# Altium footprint library 691 382 030 0xx.PcbLib: 6 footprints
Each footprint in its own frame and in the unit in brackets; x right, y up, seen from the top. Pads: shape width x height; smd on the part's side, far side on the other; paste and mask are expansions set on the pad; w line width, h text height; cw(c..) or ccw(c..) is an arc to the next point about the centre after c.
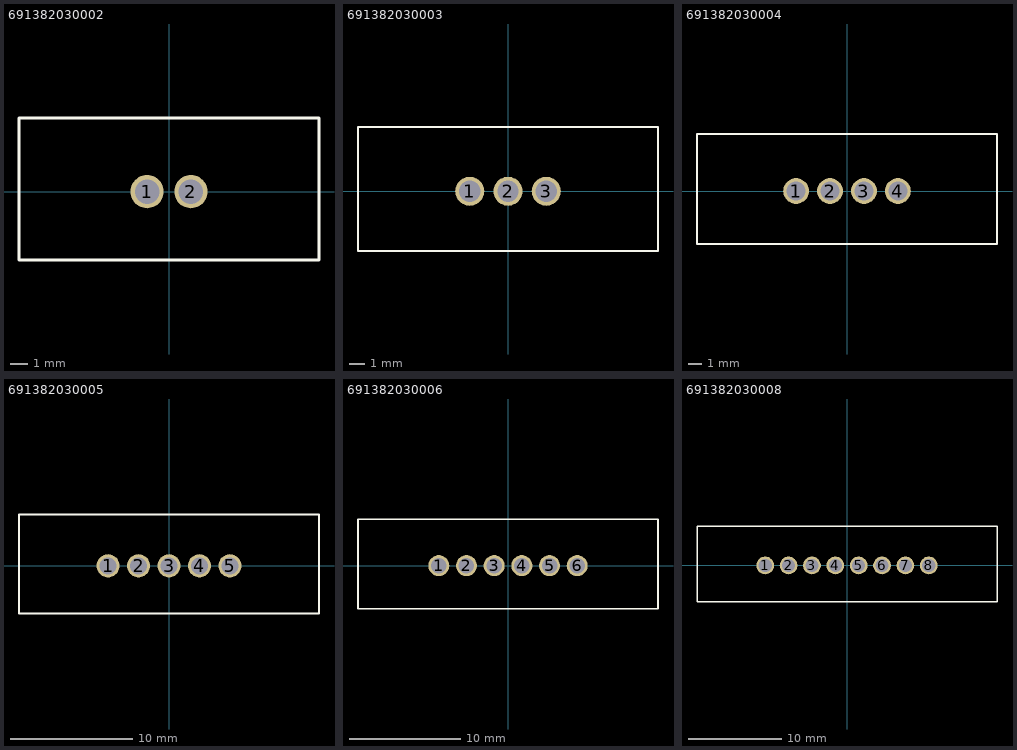
[diagram p0: the footprints below, top view; thin cyan lines are the x and y axes]

## 691382030002 [mm] "WR-TBL Terminal block - serie382 2,50mm - PCB Vertical With flanges - 02p"
height 10.1
pads (2):
  round 1.9 hole 1.4: 1(-1.25,0) 2(1.25,0)
Top Overlay:
  lines w0.152: -8.55,-3.9 8.55,-3.9 8.55,4.2 -8.55,4.2 -8.55,-3.9
3D body: height 10.11, standoff -3.49, extent -8.55,-3.9 8.55,4.2

## 691382030003 [mm] "WR-TBL Terminal block - serie382 2,50mm - PCB Vertical With flanges - 03p"
height 10.1
pads (3):
  round 1.9 hole 1.4: 1(-2.5,0) 2(0,0) 3(2.5,0)
Top Overlay:
  lines w0.152: -9.8,-3.9 -9.8,4.2 9.8,4.2 9.8,-3.9 -9.8,-3.9
3D body: height 10.11, standoff -3.49, extent -9.8,-3.9 9.8,4.2

## 691382030004 [mm] "WR-TBL Terminal block - serie382 2,50mm - PCB Vertical With flanges - 04p"
height 10.1
pads (4):
  round 1.9 hole 1.4: 1(-3.75,0) 2(-1.25,0) 3(1.25,0) 4(3.75,0)
Top Overlay:
  lines w0.152: -11.05,-3.9 -11.05,4.2 11.05,4.2 11.05,-3.9 -11.05,-3.9
3D body: height 10.11, standoff -3.49, extent -11.05,-3.9 11.05,4.2

## 691382030005 [mm] "WR-TBL Terminal block - serie382 2,50mm - PCB Vertical With flanges - 05p"
height 10.1
pads (5):
  round 1.9 hole 1.4: 1(-5,0) 2(-2.5,0) 3(0,0) 4(2.5,0) 5(5,0)
Top Overlay:
  lines w0.152: -12.3,-3.9 12.3,-3.9 12.3,4.2 -12.3,4.2 -12.3,-3.9
3D body: height 10.11, standoff -3.49, extent -12.3,-3.9 12.3,4.2

## 691382030006 [mm] "WR-TBL Terminal block - serie382 2,50mm - PCB Vertical With flanges - 06p"
height 10.1
pads (6):
  round 1.9 hole 1.4: 1(-6.25,0) 2(-3.75,0) 3(-1.25,0) 4(1.25,0) 5(3.75,0) 6(6.25,0)
Top Overlay:
  lines w0.152: -13.55,-3.9 -13.55,4.2 13.55,4.2 13.55,-3.9 -13.55,-3.9
3D body: height 10.11, standoff -3.49, extent -13.55,-3.9 13.55,4.2

## 691382030008 [mm] "WR-TBL Terminal block - serie382 2,50mm - PCB Vertical With flanges - 08p"
height 10.1
pads (8):
  round 1.9 hole 1.4: 1(-8.75,0) 2(-6.25,0) 3(-3.75,0) 4(-1.25,0) 5(1.25,0) 6(3.75,0) 7(6.25,0) 8(8.75,0)
Top Overlay:
  lines w0.152: -16.05,-3.9 -16.05,4.2 16.05,4.2 16.05,-3.9 -16.05,-3.9
3D body: height 10.11, standoff -3.49, extent -16.05,-3.9 16.05,4.2